# Altium integrated library WD Converter Parallel to Serial.IntLib: 2 symbols
Pins are listed as number, name and electrical type; pins without a type are passive.

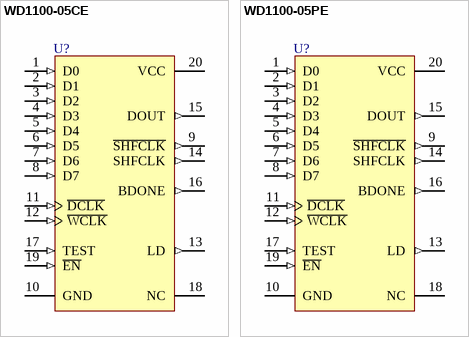
[diagram p0: symbols WD1100-05CE to WD1100-05PE]

## WD1100-05CE
designator U?
Parallel/Serial Converter; PackageDocument: 1984; Published: 8-Jun-2000; LatestRevisionDate: 4-Mar-2005; LatestRevisionNote: Stylized 3D Model Added.; DatasheetDocument: 1984; PackageReference: CE20; Publisher: Altium Limited; ComponentLink1Description: Manufacturer Link; ComponentLink1URL: http://www.wdc.com/
footprint CE20 (DIP; 20 Leads; Row Spacing 7.62 mm; Pitch 2.54 mm)
3D model CE20 (DIP; 20 Leads; Row Spacing 7.62 mm; Pitch 2.54 mm)
pins: 1 D0 (in), 2 D1 (in), 3 D2 (in), 4 D3 (in), 5 D4 (in), 6 D5 (in), 7 D6 (in), 8 D7 (in), 9 ~{SHFCLK} (out), 10 GND (power), 11 ~{DCLK} (in), 12 ~{WCLK} (in), 13 LD (out), 14 SHFCLK (out), 15 DOUT (out), 16 BDONE (out), 17 TEST (in), 18 NC, 19 ~{EN} (in), 20 VCC (power)

## WD1100-05PE
designator U?
Parallel/Serial Converter; PackageDocument: 1984; Published: 8-Jun-2000; LatestRevisionDate: 4-Mar-2005; LatestRevisionNote: Stylized 3D Model Added.; DatasheetDocument: 1984; PackageReference: PE20; Publisher: Altium Limited; ComponentLink1Description: Manufacturer Link; ComponentLink1URL: http://www.wdc.com/; Code_JEDEC: MS-001-AD
footprint PE20 (DIP; 20 Leads; Row Spacing 7.62 mm; Pitch 2.54 mm)
3D model PE20 (DIP; 20 Leads; Row Spacing 7.62 mm; Pitch 2.54 mm)
pins: 1 D0 (in), 2 D1 (in), 3 D2 (in), 4 D3 (in), 5 D4 (in), 6 D5 (in), 7 D6 (in), 8 D7 (in), 9 ~{SHFCLK} (out), 10 GND (power), 11 ~{DCLK} (in), 12 ~{WCLK} (in), 13 LD (out), 14 SHFCLK (out), 15 DOUT (out), 16 BDONE (out), 17 TEST (in), 18 NC, 19 ~{EN} (in), 20 VCC (power)